# EAGLE library part TE3/6 (library busbar)
BUS BAR 6 connections, grid 3 TE
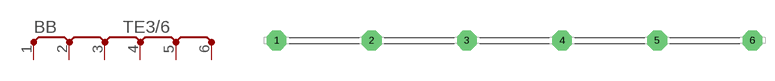
[diagram p2: symbol with the pads of TE3/6; footprint TE3/6]

Designator prefix BB

## TE3/6  [TE3/6]
1  P  pas
2  P  pas
3  P  pas
4  P  pas
5  P  pas
6  P  pas

## Footprint TE3/6 (pad centres in mm)
BUS BAR 6 connections, grid 3 TE
drill 1.6 pad 3.15 octagon: 1 -38.1,0; 2 -22.86,0; 3 -7.62,0; 4 7.62,0; 5 22.86,0; 6 38.1,0